# EAGLE library part STM32F050F_BASE (library my-library_old)
STM32F0F_Base_Module
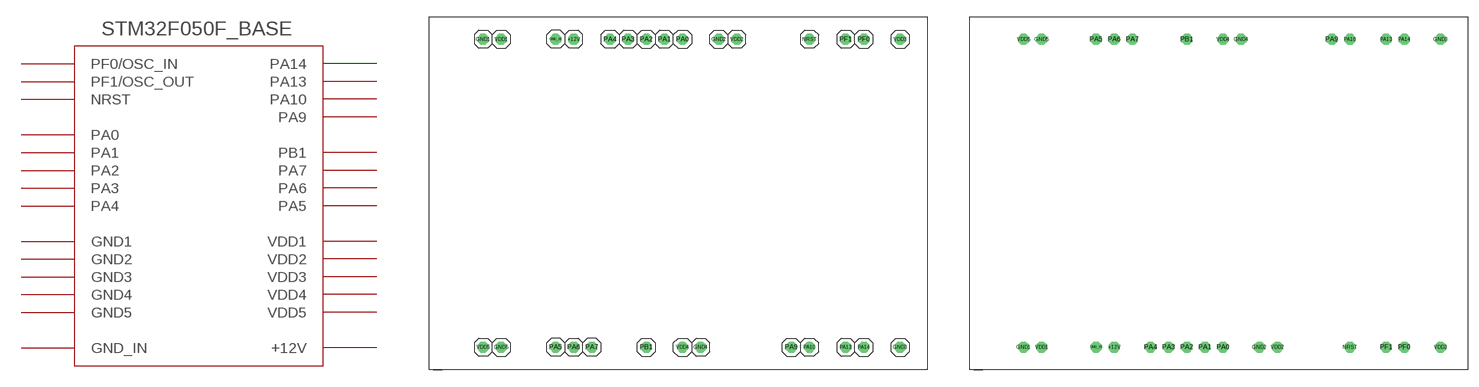
[diagram p2: symbol with the pads of STM32_BASE; footprints STM32_BASE, STM32_BASE_MOD]

Designator prefix -

## STM32F050F_BASE_BASE  [STM32_BASE]
+12V  +12V  pas
GND1  GND1  pas
GND2  GND2  pas
GND3  GND3  pas
GND4  GND4  pas
GND5  GND5  pas
GND_IN  GND_IN  pas
NRST  NRST  pas
PA0  PA0  pas
PA1  PA1  pas
PA2  PA2  pas
PA3  PA3  pas
PA4  PA4  pas
PA5  PA5  pas
PA6  PA6  pas
PA7  PA7  pas
PA9  PA9  pas
PA10  PA10  pas
PA13  PA13  pas
PA14  PA14  pas
PB1  PB1  pas
PF0  PF0/OSC_IN  pas
PF1  PF1/OSC_OUT  pas
VDD1  VDD1  pas
VDD2  VDD2  pas
VDD3  VDD3  pas
VDD4  VDD4  pas
VDD5  VDD5  pas

## STM32F050F_BASE_MOD  [STM32_BASE_MOD]
Pads as for STM32_BASE

## Footprint STM32_BASE (pad centres in mm)
STM32F0F_Base
drill 1.016 octagon: +12V 20.32,46.355; GND1 7.62,46.355; GND2 40.64,46.355; GND3 66.04,3.175; GND4 38.1,3.175; GND5 10.16,3.175; GND_IN 17.78,46.355; NRST 53.34,46.355; PA0 35.56,46.355; PA1 33.02,46.355; PA2 30.48,46.355; PA3 27.94,46.355; PA4 25.4,46.355; PA5 17.78,3.175; PA6 20.32,3.175; PA7 22.86,3.175; PA9 50.8,3.175; PA10 53.34,3.175; PA13 58.42,3.175; PA14 60.96,3.175; PB1 30.48,3.175; PF0 60.96,46.355; PF1 58.42,46.355; VDD1 10.16,46.355; VDD2 43.18,46.355; VDD3 66.04,46.355; VDD4 35.56,3.175; VDD5 7.62,3.175

## Footprint STM32_BASE_MOD (pad centres in mm)
STM32F0F_Base_Module
drill 1.016 octagon: +12V 20.32,3.175; GND1 7.62,3.175; GND2 40.64,3.175; GND3 66.04,46.355; GND4 38.1,46.355; GND5 10.16,46.355; GND_IN 17.78,3.175; NRST 53.34,3.175; PA0 35.56,3.175; PA1 33.02,3.175; PA2 30.48,3.175; PA3 27.94,3.175; PA4 25.4,3.175; PA5 17.78,46.355; PA6 20.32,46.355; PA7 22.86,46.355; PA9 50.8,46.355; PA10 53.34,46.355; PA13 58.42,46.355; PA14 60.96,46.355; PB1 30.48,46.355; PF0 60.96,3.175; PF1 58.42,3.175; VDD1 10.16,3.175; VDD2 43.18,3.175; VDD3 66.04,3.175; VDD4 35.56,46.355; VDD5 7.62,46.355